# EAGLE library part Z8400 (library dooba)
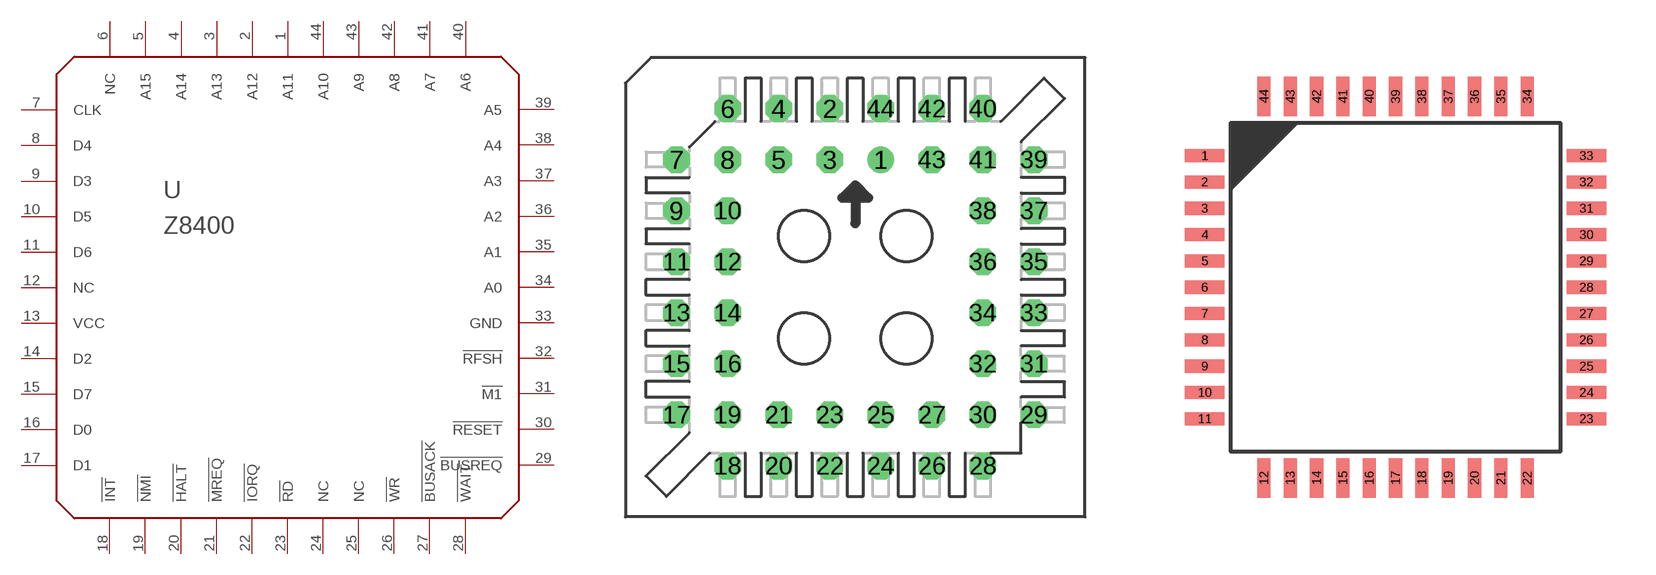
[diagram p51: symbol with the pads of PLCC-S44-SOCKET; footprints PLCC-S44-SOCKET, QFP44]

Designator prefix U

## Z8400PLCC  [PLCC-S44-SOCKET]
1  A11
2  A12
3  A13
4  A14
5  A15
6  NC
7  CLK
8  D4
9  D3
10  D5
11  D6
12  NC
13  VCC
14  D2
15  D7
16  D0
17  D1
18  !INT
19  !NMI
20  !HALT
21  !MREQ
22  !IORQ
23  !RD
24  NC
25  NC
26  !WR
27  !BUSACK
28  !WAIT
29  !BUSREQ
30  !RESET
31  !M1
32  !RFSH
33  GND
34  A0
35  A1
36  A2
37  A3
38  A4
39  A5
40  A6
41  A7
42  A8
43  A9
44  A10

## Z8400LQFP  [QFP44]
1  CLK
2  D4
3  D3
4  D5
5  D6
6  VCC
7  D2
8  D7
9  D0
10  D1
11  NC
12  !INT
13  !NMI
14  !HALT
15  !MREQ
16  !IORQ
17  NC
18  !RD
19  !WR
20  !BUSACK
21  !WAIT
22  !BUSREQ
23  !RESET
24  !M1
25  !RFSH
26  GND
27  A0
28  A1
29  A2
30  A3
31  A4
32  A5
33  NC
34  A6
35  A7
36  A8
37  A9
38  A10
39  NC
40  A11
41  A12
42  A13
43  A14
44  A15

## Footprint PLCC-S44-SOCKET (pad centres in mm)
Plastic Leaded Chip Carrier Socket
drill 0.813: 1 1.27,6.35
drill 0.813 octagon: 2 -1.27,8.89; 3 -1.27,6.35; 4 -3.81,8.89; 5 -3.81,6.35; 6 -6.35,8.89; 7 -8.89,6.35; 8 -6.35,6.35; 9 -8.89,3.81; 10 -6.35,3.81; 11 -8.89,1.27; 12 -6.35,1.27; 13 -8.89,-1.27; 14 -6.35,-1.27; 15 -8.89,-3.81; 16 -6.35,-3.81; 17 -8.89,-6.35; 18 -6.35,-8.89; 19 -6.35,-6.35; 20 -3.81,-8.89; 21 -3.81,-6.35; 22 -1.27,-8.89; 23 -1.27,-6.35; 24 1.27,-8.89; 25 1.27,-6.35; 26 3.81,-8.89; 27 3.81,-6.35; 28 6.35,-8.89; 29 8.89,-6.35; 30 6.35,-6.35; 31 8.89,-3.81; 32 6.35,-3.81; 33 8.89,-1.27; 34 6.35,-1.27; 35 8.89,1.27; 36 6.35,1.27; 37 8.89,3.81; 38 6.35,3.81; 39 8.89,6.35; 40 6.35,8.89; 41 6.35,6.35; 42 3.81,8.89; 43 3.81,6.35; 44 1.27,8.89

## Footprint QFP44 (pad centres in mm)
smd 1.2 x 0.4: 1 -5.8,4; 2 -5.8,3.2; 3 -5.8,2.4; 4 -5.8,1.6; 5 -5.8,0.8; 6 -5.8,0; 7 -5.8,-0.8; 8 -5.8,-1.6; 9 -5.8,-2.4; 10 -5.8,-3.2; 11 -5.8,-4; 23 5.8,-4; 24 5.8,-3.2; 25 5.8,-2.4; 26 5.8,-1.6; 27 5.8,-0.8; 28 5.8,0; 29 5.8,0.8; 30 5.8,1.6; 31 5.8,2.4; 32 5.8,3.2; 33 5.8,4
smd 0.4 x 1.2: 12 -4,-5.8; 13 -3.2,-5.8; 14 -2.4,-5.8; 15 -1.6,-5.8; 16 -0.8,-5.8; 17 0,-5.8; 18 0.8,-5.8; 19 1.6,-5.8; 20 2.4,-5.8; 21 3.2,-5.8; 22 4,-5.8; 34 4,5.8; 35 3.2,5.8; 36 2.4,5.8; 37 1.6,5.8; 38 0.8,5.8; 39 0,5.8; 40 -0.8,5.8; 41 -1.6,5.8; 42 -2.4,5.8; 43 -3.2,5.8; 44 -4,5.8